# Altium footprint library my.PcbLib: 1 footprints
Each footprint in its own frame and in the unit in brackets; x right, y up, seen from the top. Pads: shape width x height; smd on the part's side, far side on the other; paste and mask are expansions set on the pad; w line width, h text height; cw(c..) or ccw(c..) is an arc to the next point about the centre after c.
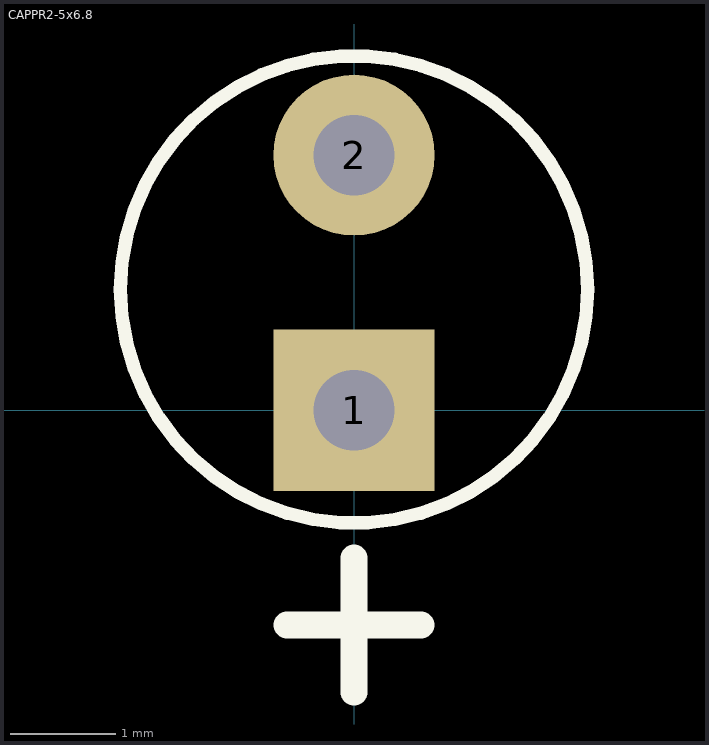
[diagram p0: the footprint, top view; thin cyan lines are the x and y axes]

## CAPPR2-5x6.8 [mil]
height 268
pads (2):
  rect 60x60 hole 30: 1(0,0)
  round 60 hole 30: 2(0,95)
Top Overlay:
  circle w5: c0,45 r87
  lines w10: -25,-80 25,-80 ; 0,-105 0,-55